# Altium footprint library DIOAD1070W78L463D238P.PcbLib: 1 footprints
Each footprint in its own frame and in the unit in brackets; x right, y up, seen from the top. Pads: shape width x height; smd on the part's side, far side on the other; paste and mask are expansions set on the pad; w line width, h text height; cw(c..) or ccw(c..) is an arc to the next point about the centre after c.
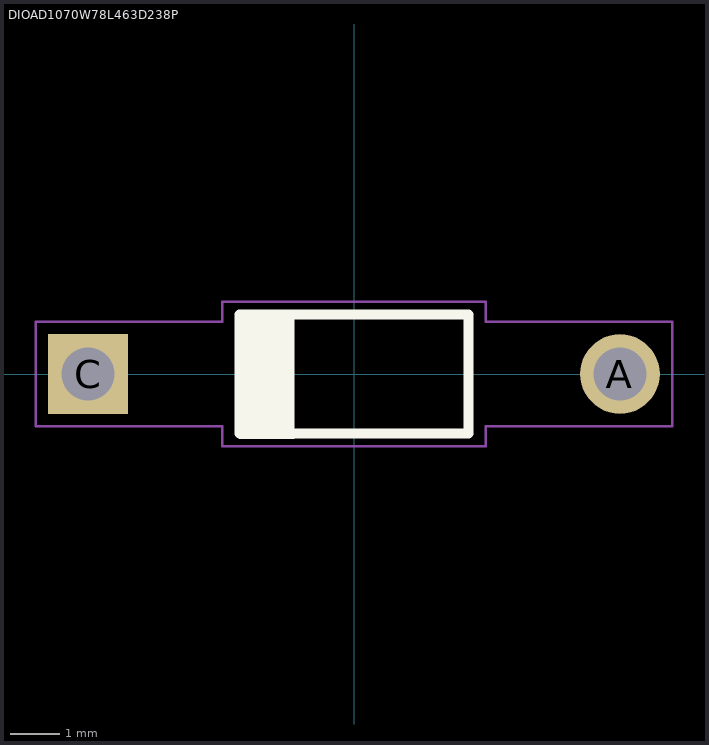
[diagram p0: the footprint, top view; thin cyan lines are the x and y axes]

## DIOAD1070W78L463D238P [mm]
pads (2):
  round 1.6 hole 1.06: A(5.35,0)
  rect 1.6x1.6 hole 1.06: C(-5.35,0)
Top Overlay:
  region: -1.2,-1.304 -2.307,-1.304 -2.307,1.2 -1.2,1.2
  lines w0.2: -2.3,-1.2 2.3,-1.2 2.3,1.2 -2.3,1.2 -2.3,-1.2
Mechanical 15:
  lines w0.05: -6.4,-1.05 -6.4,1.05 -2.65,1.05 -2.65,1.45 2.65,1.45 2.65,1.05 6.4,1.05 6.4,-1.05 2.65,-1.05 2.65,-1.45 -2.65,-1.45 -2.65,-1.05 -6.4,-1.05
3D body "1N4734A_T50R.STEP": height 2.71, standoff -21.64, extent -5.693,-1.487 5.693,1.233